# EAGLE library part DUAL-UART-MODULE-DFR0627 (library Eagle_UOF_Lib)
This IIC to Dual UART module offers data transmission rate up to 1Mbps, and each sub UART has independent 256-byte FIFO hardware buffer for transmitting and receiving. The baud rate, word length, and check format of every sub UART can be set independently. The module can provide 2Mbps maximum communication rate. At most four such modules can be connected onto one controller board to expand 8 hardware serial ports. This IIC to dual UART module can be extremely suitable for IoT module, Ultrasonic ranging module and GPS module. There are usually only 1 or 2 UARTs on Controller boards like Arduino, Raspberry Pi, micro:bit, etc. And one of them must be used in program downloading or debugging. When your application needs to connect several UART devices, you may find that there are not enough UARTs on main-board for connecting. Thus, this module could be a perfect solution for the above situation, or you can use this product in IR receiver module and WS2818 RGB relevant projects with strict timing requirements. https://wiki.dfrobot.com/Gravity%3A%20IIC%20to%20Dual%20UART%20Module%20SKU%3A%20DFR0627#target_5
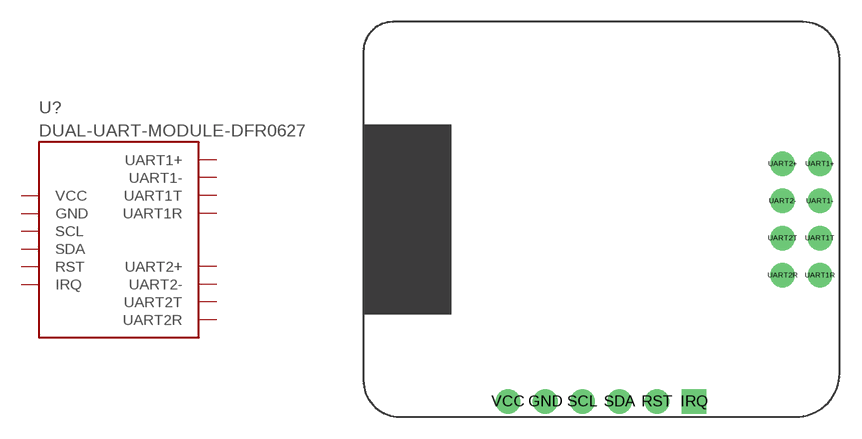
[diagram p6: symbol with the pads of DUAL-UART-MODULE-DFR0627; footprint DUAL-UART-MODULE-DFR0627]

Designator prefix U?

## DUAL-UART-MODULE-DFR0627  [DUAL-UART-MODULE-DFR0627]
GND  GND
IRQ  IRQ
RST  RST
SCL  SCL
SDA  SDA
UART1+  UART1+
UART1-  UART1-
UART1R  UART1R
UART1T  UART1T
UART2+  UART2+
UART2-  UART2-
UART2R  UART2R
UART2T  UART2T
VCC  VCC

## Footprint DUAL-UART-MODULE-DFR0627 (pad centres in mm)
drill 0.8 pad 1.676: GND 12.41,1.07; RST 20.03,1.07; SCL 14.95,1.07; SDA 17.49,1.07; UART1+ 31.16,17.31; UART1- 31.16,14.77; UART1R 31.16,9.69; UART1T 31.16,12.23; UART2+ 28.62,17.31; UART2- 28.62,14.77; UART2R 28.62,9.69; UART2T 28.62,12.23; VCC 9.87,1.07
drill 0.8 pad 1.676 square: IRQ 22.57,1.07